# EAGLE library part LE00XD (library lib_stankus)
LE00ABD/CD LDO
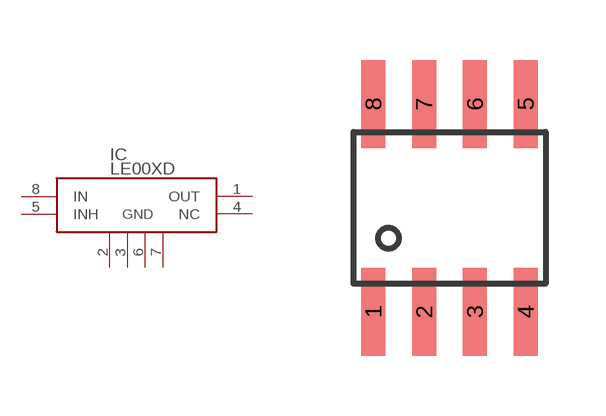
[diagram p15: symbol with the pads of SOIC8; footprint SOIC8]

Designator prefix IC

## LE00XD-SOIC8  [SOIC8]
1  OUT  pas
2  GND  pas
3  GND  pas
4  NC  pas
5  INH  pas
6  GND  pas
7  GND  pas
8  IN  pas

## Footprint SOIC8 (pad centres in mm)
SOIC8
smd 0.6 x 2.2: 1 -1.905,-2.6; 2 -0.635,-2.6; 3 0.635,-2.6; 4 1.905,-2.6; 5 1.905,2.6; 6 0.635,2.6; 7 -0.635,2.6; 8 -1.905,2.6